# EAGLE library part PC900V (library MIDI router parts)
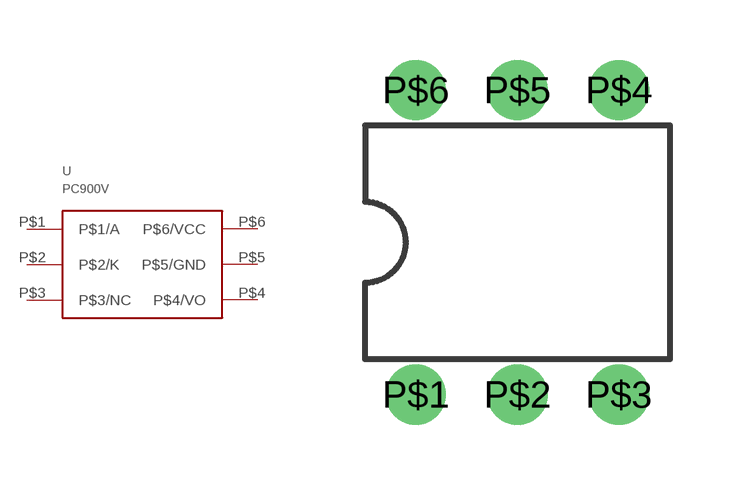
[diagram p16: symbol with the pads of DIL06; footprint DIL06]

Designator prefix -

## PC900V  [DIL06]
P$1  P$1/A
P$2  P$2/K
P$3  P$3/NC
P$4  P$4/VO
P$5  P$5/GND
P$6  P$6/VCC

## Footprint DIL06 (pad centres in mm)
Dual In Line Package
drill 1: P$1 -2.54,-3.81; P$2 0,-3.81; P$3 2.54,-3.81; P$4 2.54,3.81; P$5 0,3.81; P$6 -2.54,3.81